# Altium schematic symbol library TBBOARD.SchLib: 2 symbols
Pins are listed as number, name and electrical type; pins without a type are passive.

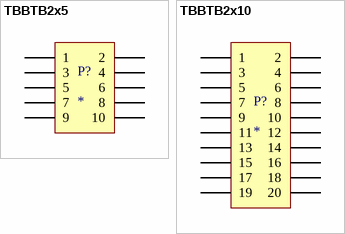
[diagram p0: symbols TBBTB2x5 to TBBTB2x10]

## TBBTB2x5
designator P?
Connector board to board 2 Rows, 5 Columns Pitch 2.54mm; Digi-Key Part Number: ED1543-ND
footprint TBBTB2x5 (Board to Board 2x5 Pitch 2.54mm)
footprint TBBTB2x5RightAngle
pins: 1, 2, 3, 4, 5, 6, 7, 8, 9, 10

## TBBTB2x10
designator P?
Connector board to board pitch 2.54mm; Digi-Key Part Number: ED10524-ND
footprint TBBTB2x10 (Board to Board 2x10 Pitch 2.54mm)
pins: 1, 2, 3, 4, 5, 6, 7, 8, 9, 10, 11, 12, 13, 14, 15, 16, 17, 18, 19, 20